# EAGLE library part MA08-2 (library all-connectors)
PIN HEADER
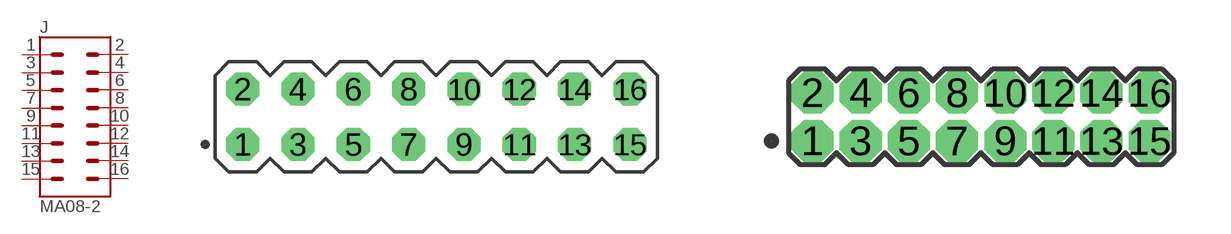
[diagram p32: symbol with the pads of MA08-2_TH_2.54MM; footprints MA08-2_TH_2.54MM, MA08-2_TH_1.27MM]

Designator prefix J

## MA08-2_TH_2.54MM  [MA08-2_TH_2.54MM]
1  1  pas
2  2  pas
3  3  pas
4  4  pas
5  5  pas
6  6  pas
7  7  pas
8  8  pas
9  9  pas
10  10  pas
11  11  pas
12  12  pas
13  13  pas
14  14  pas
15  15  pas
16  16  pas

## MA08-2_TH_1.27MM  [MA08-2_TH_1.27MM]
Pads as for MA08-2_TH_2.54MM

## MA08-2_SMD_1.27MM  [MA08-2_SMD_1.27MM]
Pads as for MA08-2_TH_2.54MM

## MA08-2_TH_SRH_2.54MM  [MA08-2_TH_SHR_2.54MM]
Pads as for MA08-2_TH_2.54MM

## Footprint MA08-2_TH_2.54MM (pad centres in mm)
PIN HEADER
drill 1.016 octagon: 1 -8.89,-1.27; 2 -8.89,1.27; 3 -6.35,-1.27; 4 -6.35,1.27; 5 -3.81,-1.27; 6 -3.81,1.27; 7 -1.27,-1.27; 8 -1.27,1.27; 9 1.27,-1.27; 10 1.27,1.27; 11 3.81,-1.27; 12 3.81,1.27; 13 6.35,-1.27; 14 6.35,1.27; 15 8.89,-1.27; 16 8.89,1.27

## Footprint MA08-2_TH_1.27MM (pad centres in mm)
PIN HEADER
drill 0.6 octagon: 1 -4.445,-0.635; 2 -4.445,0.635; 3 -3.175,-0.635; 4 -3.175,0.635; 5 -1.905,-0.635; 6 -1.905,0.635; 7 -0.635,-0.635; 8 -0.635,0.635; 9 0.635,-0.635; 10 0.635,0.635; 11 1.905,-0.635; 12 1.905,0.635; 13 3.175,-0.635; 14 3.175,0.635; 15 4.445,-0.635; 16 4.445,0.635

## Footprint MA08-2_SMD_1.27MM (pad centres in mm)
smd 0.76 x 2.4: 1 -4.445,-1.95; 2 -4.445,1.95; 3 -3.175,-1.95; 4 -3.175,1.95; 5 -1.905,-1.95; 6 -1.905,1.95; 7 -0.635,-1.95; 8 -0.635,1.95; 9 0.635,-1.95; 10 0.635,1.95; 11 1.905,-1.95; 12 1.905,1.95; 13 3.175,-1.95; 14 3.175,1.95; 15 4.445,-1.95; 16 4.445,1.95

## Footprint MA08-2_TH_SHR_2.54MM (pad centres in mm)
PIN HEADER
drill 1.016 octagon: 1 -8.89,-1.27; 2 -8.89,1.27; 3 -6.35,-1.27; 4 -6.35,1.27; 5 -3.81,-1.27; 6 -3.81,1.27; 7 -1.27,-1.27; 8 -1.27,1.27; 9 1.27,-1.27; 10 1.27,1.27; 11 3.81,-1.27; 12 3.81,1.27; 13 6.35,-1.27; 14 6.35,1.27; 15 8.89,-1.27; 16 8.89,1.27